# EAGLE library part MC-312D (library Deegou_Connector)
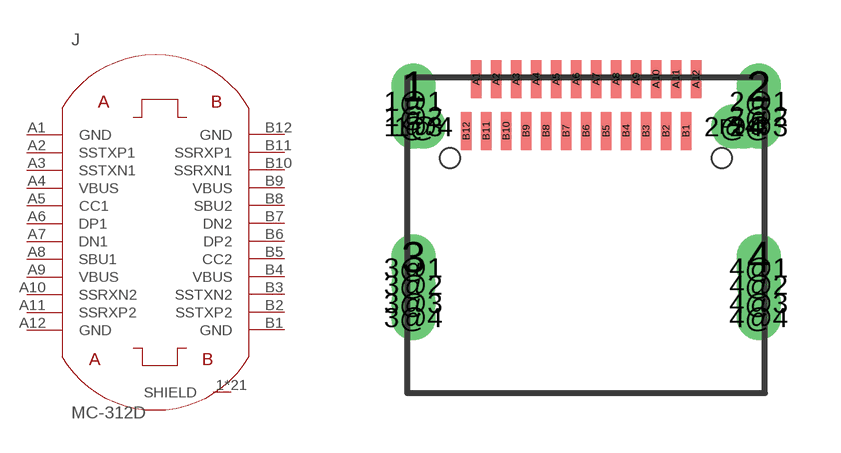
[diagram p20: symbol with the pads of MC-312D; footprint MC-312D]

Designator prefix J

## MC-312DMC-312D  [MC-312D]
1  SHIELD
1@1  SHIELD
1@2  SHIELD
1@3  SHIELD
1@4  SHIELD
2  SHIELD
2@1  SHIELD
2@2  SHIELD
2@3  SHIELD
2@4  SHIELD
3  SHIELD
3@1  SHIELD
3@2  SHIELD
3@3  SHIELD
3@4  SHIELD
4  SHIELD
4@1  SHIELD
4@2  SHIELD
4@3  SHIELD
4@4  SHIELD
A1  GND
A2  SSTXP1
A3  SSTXN1
A4  VBUS
A5  CC1
A6  DP1
A7  DN1
A8  SBU1
A9  VBUS
A10  SSRXN2
A11  SSRXP2
A12  GND
B1  GND
B2  SSTXP2
B3  SSTXN2
B4  VBUS
B5  CC2
B6  DP2
B7  DN2
B8  SBU2
B9  VBUS
B10  SSRXN1
B11  SSRXP1
B12  GND
P$43  SHIELD

## Footprint MC-312D (pad centres in mm)
drill 0.6 pad 1: 1 -4.32,-0.177; 1@1 -4.32,-0.558; 1@2 -4.32,-0.939; 1@3 -4.32,-1.193; 1@4 -4.066,-1.193; 2 4.32,-0.177; 2@1 4.32,-0.558; 2@2 4.32,-0.939; 2@3 4.32,-1.193; 2@4 3.685,-1.193; 3 -4.32,-4.447; 3@1 -4.32,-4.726; 3@2 -4.32,-5.158; 3@3 -4.32,-5.615; 3@4 -4.32,-5.971; 4 4.32,-4.447; 4@1 4.32,-4.726; 4@2 4.32,-5.158; 4@3 4.32,-5.615; 4@4 4.32,-5.971; P$43 3.939,-1.193
smd 0.26 x 0.95: A1 -2.75,0; A2 -2.25,0; A3 -1.75,0; A4 -1.25,0; A5 -0.75,0; A6 -0.25,0; A7 0.25,0; A8 0.75,0; A9 1.25,0; A10 1.75,0; A11 2.25,0; A12 2.75,0; B1 2.5,-1.3; B2 2,-1.3; B3 1.5,-1.3; B4 1,-1.3; B5 0.5,-1.3; B6 0,-1.3; B7 -0.5,-1.3; B8 -1,-1.3; B9 -1.5,-1.3; B10 -2,-1.3; B11 -2.5,-1.3; B12 -3,-1.3
hole 0.5 at -3.4,-1.975
hole 0.5 at 3.4,-1.975